# EAGLE library part TPS5632149DDCR (library FRA_eagle_lib)
TPS563249 17-V, 3-A, Constant 1.4-MHz Synchronous Step-Down Voltage Regulator datasheet <http://www.ti.com/lit/ds/symlink/tps563249.pdf> • Input Voltage Range: 4.5 V to 17 V • Output Voltage Range: 0.6 V to 7 V The TPS563249 is a simple, easy-to-use, 3 A synchronous step-down converter in SOT-23 package. The device is optimized to operate with minimum external component counts and also optimized to achieve low standby current. This switching regulator employs D-CAP3 mode control providing a fast transient response and supporting both low-equivalent series resistance (ESR) output capacitors such as specialty polymer and ultra-low ESR ceramic capacitors with no external compensation components. TPS563249 operates in Forced Continuous Conduction Mode (FCCM), which maintains fixed 1.4 MHz switching frequency during light load operation and eliminates system interference. The TPS563249 is available in a 6-pin 1.6-mm × 2.9-mm SOT (DDC) package, and specified from a –40°C to 125°C junction temperature.
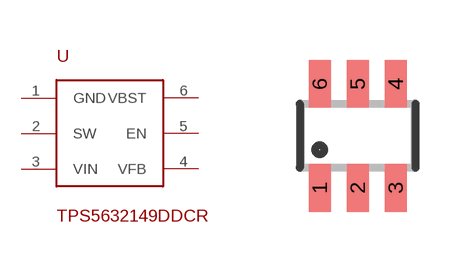
[diagram p1: symbol with the pads of SOT23-6; footprint SOT23-6]

Designator prefix -

## TPS5632149DDCR  [SOT23-6]
1  GND
2  SW
3  VIN
4  VFB
5  EN
6  VBST

## Footprint SOT23-6 (pad centres in mm)
smd 0.55 x 1.2: 1 -0.95,-1.3; 2 0,-1.3; 3 0.95,-1.3; 4 0.95,1.3; 5 0,1.3; 6 -0.95,1.3